# EAGLE library part 4SH-HQ-V1.0 (library XM8)
4ch CV sample & hold with hysteresis and power line filtering
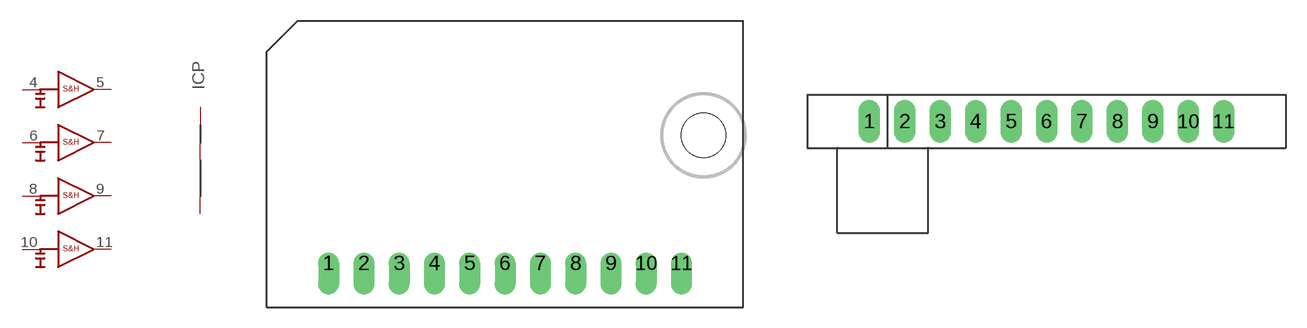
[diagram p4: symbol with the pads of XM8-4SH-HQ-V1.0H; footprints XM8-4SH-HQ-V1.0H, XM8-4SH-HQ-V1.0V]

Designator prefix IC; gates G$1=XM8-SH G$2=XM8-SH G$3=XM8-SH G$4=XM8-SH P=XM8-PWR

## 4SH-HQ-V1.0H  [XM8-4SH-HQ-V1.0H]
1  P:AGND  pwr
2  P:+V  pwr
3  P:-V  pwr
4  G$1:I
5  G$1:O
6  G$2:I
7  G$2:O
8  G$3:I
9  G$3:O
10  G$4:I
11  G$4:O

## 4SH-HQ-V1.0V  [XM8-4SH-HQ-V1.0V]
Pads as for XM8-4SH-HQ-V1.0H

## Footprint XM8-4SH-HQ-V1.0H (pad centres in mm)
4ch CV sample & hold with hysteresis and power line filtering, horizontal mount
drill 1.016 offset: 1 -12.7,0; 2 -10.16,0; 3 -7.62,0; 4 -5.08,0; 5 -2.54,0; 6 0,0; 7 2.54,0; 8 5.08,0; 9 7.62,0; 10 10.16,0; 11 12.7,0
hole 3.2 at 14.287,9.207

## Footprint XM8-4SH-HQ-V1.0V (pad centres in mm)
4ch CV sample & hold with hysteresis and power line filtering, vertical mount
drill 1.016 long: 1 -12.7,0; 2 -10.16,0; 3 -7.62,0; 4 -5.08,0; 5 -2.54,0; 6 0,0; 7 2.54,0; 8 5.08,0; 9 7.62,0; 10 10.16,0; 11 12.7,0